# EAGLE library part REF19* (library microchip)
Voltage Reference REF191=2.048V REF192=2.50V REF193=3.00V REF194=4.50V REF195=5.00V REF196=3.30V REF198=4.096V REF
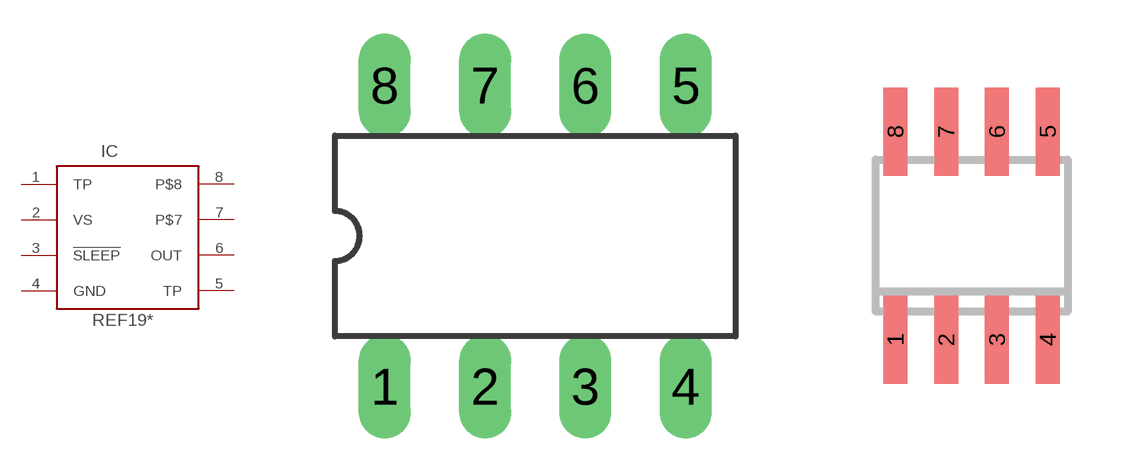
[diagram p28: symbol with the pads of DIL8; footprints DIL8, SO-08]

Designator prefix IC

## REF191DIL, REF192DIL, REF193DIL, REF194DIL, REF195DIL, REF196DIL, REF198DIL  [DIL8]
1  TP
2  VS
3  !SLEEP
4  GND
5  TP
6  OUT
7  P$7
8  P$8

## REF191SO, REF192SO, REF193SO, REF194SO, REF195SO, REF196SO, REF198SO  [SO-08]
Pads as for DIL8

## Footprint DIL8 (pad centres in mm)
Dual In Line package type P
drill 0.813 long: 1 -3.81,-3.81; 2 -1.27,-3.81; 3 1.27,-3.81; 4 3.81,-3.81; 5 3.81,3.81; 6 1.27,3.81; 7 -1.27,3.81; 8 -3.81,3.81

## Footprint SO-08 (pad centres in mm)
Small Outline Narrow Plastic Gull Wing 150-mil body, package type SN
smd 0.6 x 2.2: 1 -1.905,-2.6; 2 -0.635,-2.6; 3 0.635,-2.6; 4 1.905,-2.6; 5 1.905,2.6; 6 0.635,2.6; 7 -0.635,2.6; 8 -1.905,2.6